# Altium integrated library DAC0800.IntLib: 1 symbol
Pins are listed as number, name and electrical type; pins without a type are passive.

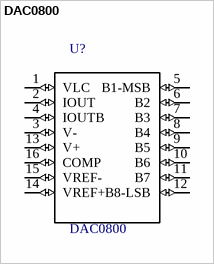
[diagram p0: symbol DAC0800]

## DAC0800
designator U?
MF: Texas Instruments; SnapEDA_Link: https://www.snapeda.com/parts/DAC0800/Texas%20Instruments/view-part/?ref=snap; MP: DAC0800; Package: SOIC-16 Texas Instruments; Digi-Key_Part_Number: DAC0800LCN/NOPB-ND; Digi-Key_Purchase_URL: https://www.digikey.com.ar/product-detail/en/texas-instruments/DAC0800LCN-NOPB/DAC0800LCN-NOPB-ND/4652?utm_source=snapeda&utm_medium=aggregator&utm_campaign=symbol; Value: *
footprint *DIL16
pins: 1 VLC (io), 2 IOUT (io), 3 V- (io), 4 IOUTB (io), 5 B1-MSB (io), 6 B2 (io), 7 B3 (io), 8 B4 (io), 9 B5 (io), 10 B6 (io), 11 B7 (io), 12 B8-LSB (io), 13 V+ (io), 14 VREF+ (io), 15 VREF- (io), 16 COMP (io)